# EAGLE library part 7SEG-LITEON (library special)
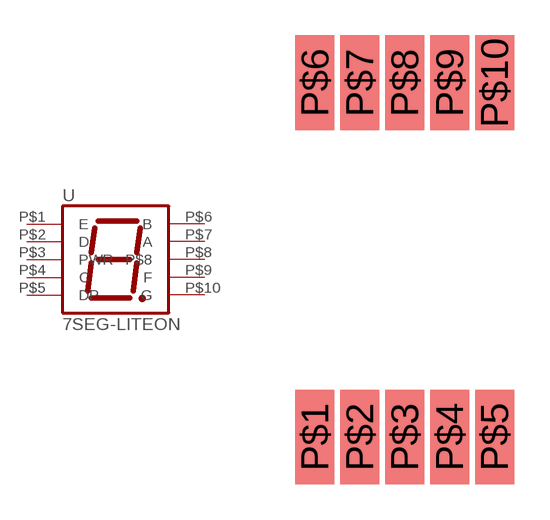
[diagram p14: symbol with the pads of 7SEG-LITEON; footprint 7SEG-LITEON]

Designator prefix -

## 7SEG-LITEON  [7SEG-LITEON]
P$1  E  out
P$2  D  out
P$3  PWR  pwr
P$4  C  out
P$5  DP  out
P$6  B  out
P$7  A  out
P$8  P$8  nc
P$9  F  out
P$10  G  out

## Footprint 7SEG-LITEON (pad centres in mm)
7 Segment single Display from LITEON Part no.: LTS4812SKR-P SMD-7Seg 10mm CA red 37,8mcd
smd 1.65 x 4: P$1 -3.8,-7.6; P$2 -1.9,-7.6; P$3 0,-7.6; P$4 1.9,-7.6; P$5 3.8,-7.6; P$6 -3.8,7.4; P$7 -1.9,7.4; P$8 0,7.4; P$9 1.9,7.4; P$10 3.8,7.4